# EAGLE library part PMOD (library modular_robotics)
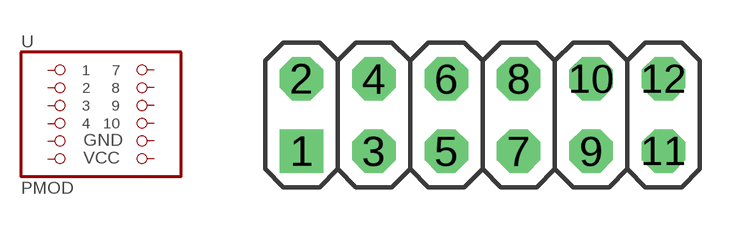
[diagram p8: symbol with the pads of 2X06; footprint 2X06]

Designator prefix -

## PMOD  [2X06]
1  1  pas
2  7  pas
3  2  pas
4  8  pas
5  3  pas
6  9  pas
7  4  pas
8  10  pas
9  5  pas
10  11  pas
11  6  pas
12  12  pas

## Footprint 2X06 (pad centres in mm)
PIN HEADER
drill 1.016 square: 1 -6.35,-1.27
drill 1.016 octagon: 2 -6.35,1.27; 3 -3.81,-1.27; 4 -3.81,1.27; 5 -1.27,-1.27; 6 -1.27,1.27; 7 1.27,-1.27; 8 1.27,1.27; 9 3.81,-1.27; 10 3.81,1.27; 11 6.35,-1.27; 12 6.35,1.27